# Altium footprint library CN3903模块_2024-02-19.PcbLib: 1 footprints
Each footprint in its own frame and in the unit in brackets; x right, y up, seen from the top. Pads: shape width x height; smd on the part's side, far side on the other; paste and mask are expansions set on the pad; w line width, h text height; cw(c..) or ccw(c..) is an arc to the next point about the centre after c.
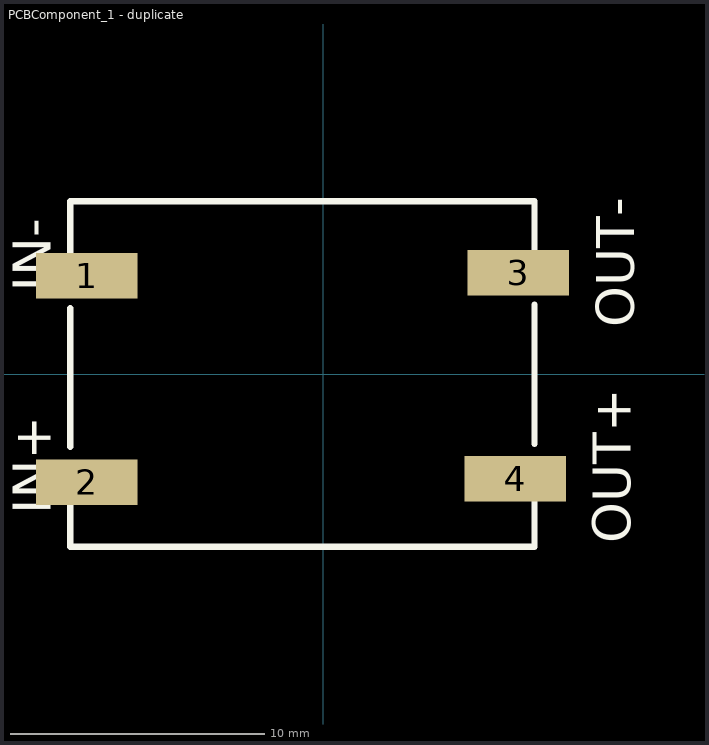
[diagram p0: the footprint, top view; thin cyan lines are the x and y axes]

## PCBComponent_1 - duplicate [mm]
pads (4):
  rect 4x1.8 smd paste+0 mask+0.051: 1(-9.335,3.867) 2(-9.335,-4.261) 3(7.683,3.994) 4(7.556,-4.134)
Top Overlay:
  lines w0.254: -9.97,-4.884 -9.97,-6.801 8.319,-6.801 8.319,-4.515 ; -9.97,-2.876 -9.97,2.585 ; -9.97,4.375 -9.97,6.801 8.319,6.801 8.319,4.502 ; 8.319,-2.749 8.319,2.724
  text "IN-" at -10.743,3.232 h1.5
  text "IN+" at -10.743,-5.531 h1.5
  text "OUT-" at 12.243,1.835 h1.5
  text "OUT+" at 12.117,-6.674 h1.5